# EAGLE library part TC2050-IDC (library TagConnect)
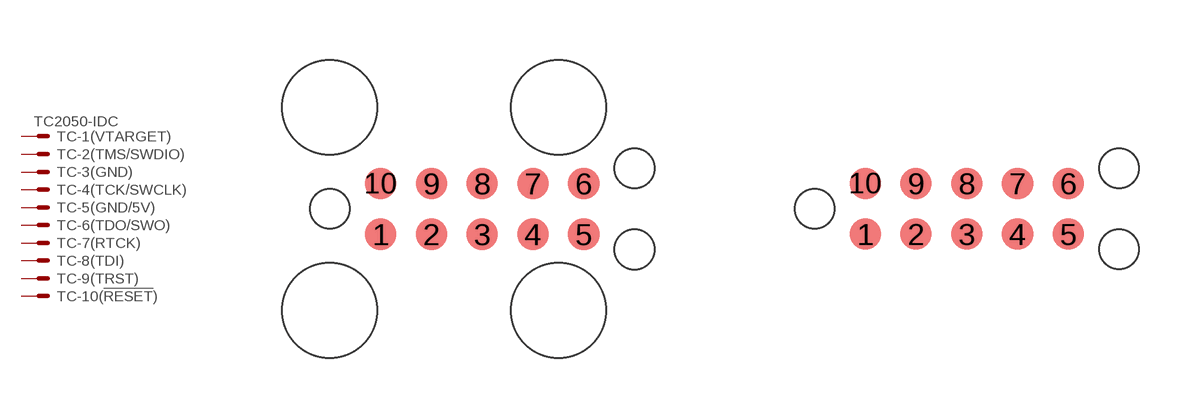
[diagram p0: symbol with the pads of TC2050-IDC; footprints TC2050-IDC, TC2050-IDC-NL]

Designator prefix TC; gates -1(VTARGET)=KV -2(TMS/SWDIO)=K -3(GND)=K -4(TCK/SWCLK)=K -5(GND/5V)=K -6(TDO/SWO)=K -7(RTCK)=K -8(TDI)=K -9(TRST)=K -10(!RESET!)=K

## TC2050-IDC  [TC2050-IDC]
1  -1(VTARGET):S  pas
2  -2(TMS/SWDIO):S  pas
3  -3(GND):S  pas
4  -4(TCK/SWCLK):S  pas
5  -5(GND/5V):S  pas
6  -6(TDO/SWO):S  pas
7  -7(RTCK):S  pas
8  -8(TDI):S  pas
9  -9(TRST):S  pas
10  -10(!RESET!):S  pas

## TC2050-IDC-NL  [TC2050-IDC-NL]
Pads as for TC2050-IDC

## Footprint TC2050-IDC (pad centres in mm)
smd 0.787 x 0.787: 1 -2.54,-0.635; 2 -1.27,-0.635; 3 0,-0.635; 4 1.27,-0.635; 5 2.54,-0.635; 6 2.54,0.635; 7 1.27,0.635; 8 0,0.635; 9 -1.27,0.635; 10 -2.54,0.635
hole 0.991 at -3.81,0
hole 0.991 at 3.81,1.016
hole 0.991 at 3.81,-1.016
hole 2.375 at -3.81,2.54
hole 2.375 at -3.81,-2.54
hole 2.375 at 1.905,2.54
hole 2.375 at 1.905,-2.54

## Footprint TC2050-IDC-NL (pad centres in mm)
smd 0.787 x 0.787: 1 -2.54,-0.635; 2 -1.27,-0.635; 3 0,-0.635; 4 1.27,-0.635; 5 2.54,-0.635; 6 2.54,0.635; 7 1.27,0.635; 8 0,0.635; 9 -1.27,0.635; 10 -2.54,0.635
hole 0.991 at -3.81,0
hole 0.991 at 3.81,1.016
hole 0.991 at 3.81,-1.016